# Altium schematic symbol library 9e10b744bb4c87c33691f54f9cb3eff1_25b2db50bc18869c33ddf303d90bd74c_8.schlib: 35 symbols
Pins are listed as number, name and electrical type; pins without a type are passive.

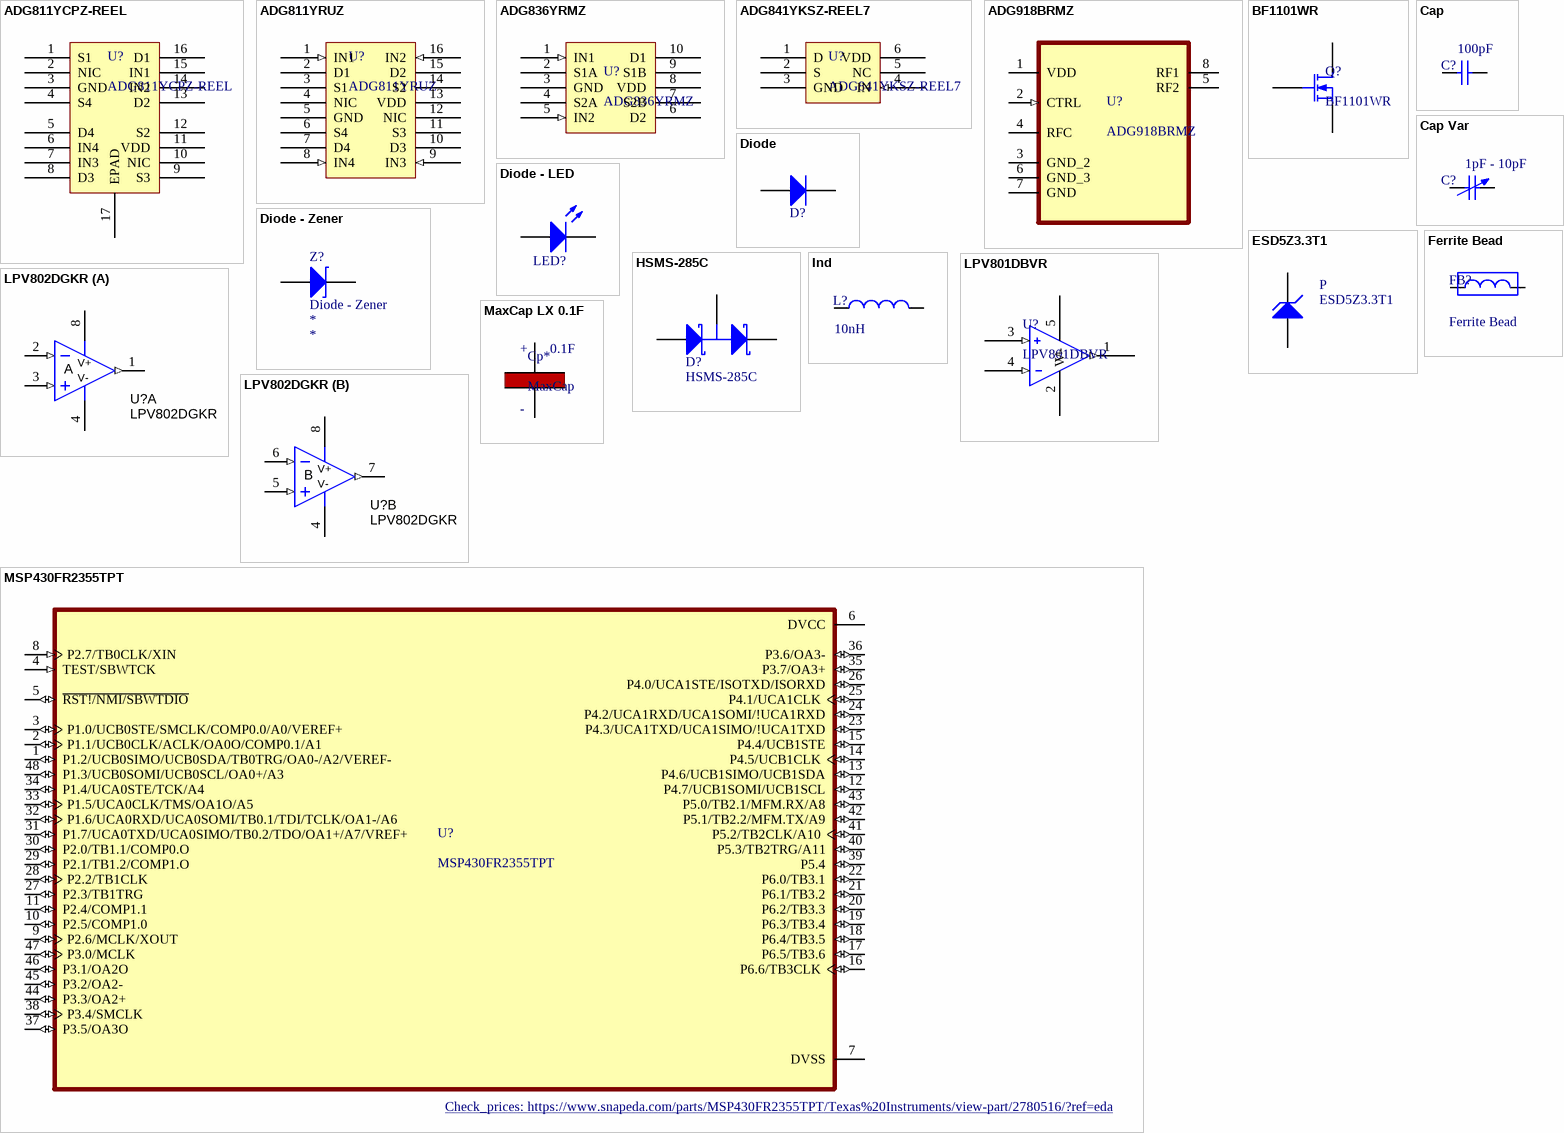
[diagram p0: symbols ADG811YCPZ-REEL to MSP430FR2355TPT]

## ADG811YCPZ-REEL
designator U?
四通道单刀单掷开关
footprint QFN50P300X300X90-17N
pins: 1 S1, 2 NIC, 3 GND, 4 S4, 5 D4, 6 IN4, 7 IN3, 8 D3, 9 S3, 10 NIC, 11 VDD, 12 S2, 13 D2, 14 IN2, 15 IN1, 16 D1, 17 EPAD

## ADG811YRUZ
designator U?
四通道单刀单掷开关
footprint SOP65P640X120-16N
pins: 1 IN1 (in), 2 D1, 3 S1, 4 NIC, 5 GND (power), 6 S4, 7 D4, 8 IN4 (in), 9 IN3 (in), 10 D3, 11 S3, 12 NIC, 13 VDD (power), 14 S2, 15 D2, 16 IN2 (in)

## ADG836YRMZ
designator U?
双通道单刀双掷开关
footprint SOP50P490X110-10N
pins: 1 IN1 (in), 2 S1A, 3 GND (power), 4 S2A, 5 IN2 (in), 6 D2, 7 S2B, 8 VDD (power), 9 S1B, 10 D1

## ADG841YKSZ-REEL7
designator U?
单通道单刀单掷开关
footprint SOT65P210X110-6N
pins: 1 D, 2 S, 3 GND (power), 4 IN (in), 5 NC, 6 VDD (power)

## ADG918BRMZ
designator U?
RF Switch Single Pole 0 MHz to 4GHz 34dB 8-Pin MSOP; MF: Analog Devices; Value: *; SnapEDA_Link: https://www.snapeda.com/parts/ADG918BRMZ/Analog%20Devices%20Inc./view-part/239205/?ref=snap; Digi-Key_Part_Number: ADG918BRMZ-ND; Package: MSOP-8 Analog Devices; Digi-Key_Purchase_URL: https://www.digikey.ru/product-detail/en/analog-devices-inc/ADG918BRMZ/ADG918BRMZ-ND/820128?utm_source=snapeda&utm_medium=aggregator&utm_campaign=symbol; MP: ADG918BRMZ
footprint SOP65P490X110-8N
pins: 1 VDD (power), 2 CTRL (in), 3 GND_2, 4 RFC, 5 RF2, 6 GND_3, 7 GND, 8 RF1

## BF1101WR
designator Q?
N-Channel Dual-Gate Mos-Fets MOSFET, SOT343R; Manufacturer Part Number: BF1101WR,115; Manufacturer: NXP Semiconductors; Digi-Key Part Number: 568-6140-1-ND; Rating: *; Value: *; Note: *
footprint SOT343R (SOT343R - Package for BF1101WR)
pins: 1 S, 2 D, 3 G

## Cap
designator C?  value 100pF  (hidden comment: Cap)
Ceramic Capacitor (Surface Mount); Manufacturer: Generic Ceramic Chip Cap (TBD); Digi-Key Part Number: *; Manufacturer Part Number: *; Note: *; Rating: *
footprint 0402 (Surface Mount; Body 1 x 0.5 mm (LxW typ))
footprint 0402-W (Surface Mount - Wide; Body 1.0 x 0.5 mm (LxW typ))
footprint 0603 (Surface Mount; Body 1.6 x 0.8 mm (LxW typ))
footprint 0603-W (Surface Mount - Wide; Body 1.6 x 0.8 mm (LxW typ))
footprint 0805 (Surface Mount; Body 2.0 x 1.25 mm (LxW typ))
footprint 0805-W (Surface Mount - Wide; Body 2.0 x 1.25 mm (LxW typ))
footprint 1206 (Surface Mount; Body 3.2 x 1.6 mm (LxW typ))
footprint 1206-W (Surface Mount - Wide; Body 3.2 x 1.6 mm (LxW typ))
footprint 1210 (Surface Mount; Body 3.2 x 2.5 mm (LxW typ))
footprint 1210-W (Chip Capacitor; Body 3.2 x 2.5 mm (LxW typ))
pins: 1, 2

## Cap Var
designator C?  value 1pF - 10pF  (hidden comment: Cap Var)
Variable or Adjustable Capacitor; Manufacturer: *; Manufacturer Part Number: *; Digi-Key Part Number: *; Rating: *
footprint Var-Cap_0603_Small (Var-Cap 0603 Compatible High-Q, DK#490-2011-1-ND)
pins: 1, 2

## Diode
designator D?  (value not drawn)
General Purpose Diode; Manufacturer: *; Manufacturer Part Number: *; Digi-Key Part Number: *; Value: *; Rating: *; Note: *
footprint Diode - SOD128 (Diode: Body 1.6 x 0.8 mm (LxW typ))
footprint DIODE - SOD123 (SOD-123; 2 Leads; Body 2.7 x 1.6 mm, (LxW))
footprint SOD-523 (SOD-523 Footprint)
pins: 1 A, 2 C

## Diode - LED
designator LED?, comment LED  (value not drawn)
Typical RED, GREEN, YELLOW, AMBER GaAs LED; Digi-Key Part Number: *; Manufacturer: *; Manufacturer Part Number: *; Note: *; Value: *; Rating: *
footprint Diode - 0603 (Diode: Body 1.6 x 0.8 mm (LxW typ))
pins: 1 A, 2 K

## Diode - Zener
designator Z?
Manufacturer Part Number: *; Manufacturer: *; Digi-Key Part Number: *; Note: *; Value: *; Rating: *
footprint SOD-523 (SOD-523 Footprint)
pins: 1 A, 2 K

## ESD5Z3.3T1
designator P
5V Overvoltage Protection Zener; Manufacturer Part Number: ESD5Z3.3T1G; Manufacturer: ON Semiconductor; Digi-Key Part Number: ESD5Z3.3T1GOSCT-ND; Value: *; Rating: *; Note: *
footprint SOD-523 (SOD-523 Footprint)
pins: 1 C, 2 A

## Ferrite Bead
designator FB?
Ferrite bead, RF choke; Manufacturer: example: Taiyo Yuden; Manufacturer Part Number: example: BK1608HS330-T; Digi-Key Part Number: example: 587-1871-1-ND; Rating: *; Note: *; Value: *
footprint 0402 (Surface Mount; Body 1 x 0.5 mm (LxW typ))
footprint 0402-W (Surface Mount - Wide; Body 1.0 x 0.5 mm (LxW typ))
footprint 0603 (Surface Mount; Body 1.6 x 0.8 mm (LxW typ))
footprint 0603-W (Surface Mount - Wide; Body 1.6 x 0.8 mm (LxW typ))
footprint 0805 (Surface Mount; Body 2.0 x 1.25 mm (LxW typ))
footprint 0805-W (Surface Mount - Wide; Body 2.0 x 1.25 mm (LxW typ))
footprint 1206 (Surface Mount; Body 3.2 x 1.6 mm (LxW typ))
footprint 1206-W (Surface Mount - Wide; Body 3.2 x 1.6 mm (LxW typ))
pins: 1, 2

## HSMS-285C
designator D?
Agilent Schottky Diode, Two in Series, Small Package SOT-323; Manufacturer: Avago Technologies US Inc.; Note: *; Digi-Key Part Number: *not stocked; Manufacturer Part Number: HSMS-285C; Rating: *; Value: *
footprint SOT-323, HSMS-285C (SOT-323/SC-70; 3 Leads; HSMS-285C)
pins: 1 A, 2 K, 3 C

## Ind
designator L?  value 10nH  (hidden comment: Ind)
Inductor (Surface Mount); Digi-Key Part Number: *; Manufacturer: *; Manufacturer Part Number: *; Rating: *; Note: *
footprint 0402 (Surface Mount; Body 1 x 0.5 mm (LxW typ))
footprint 0402-W (Surface Mount - Wide; Body 1.0 x 0.5 mm (LxW typ))
footprint 0603 (Surface Mount; Body 1.6 x 0.8 mm (LxW typ))
footprint 0603-W (Surface Mount - Wide; Body 1.6 x 0.8 mm (LxW typ))
footprint 0805 (Surface Mount; Body 2.0 x 1.25 mm (LxW typ))
footprint 0805-W (Surface Mount - Wide; Body 2.0 x 1.25 mm (LxW typ))
footprint 1206 (Surface Mount; Body 3.2 x 1.6 mm (LxW typ))
footprint 1206-W (Surface Mount - Wide; Body 3.2 x 1.6 mm (LxW typ))
footprint 1210 (Surface Mount; Body 3.2 x 2.5 mm (LxW typ))
footprint 1210-W (Chip Capacitor; Body 3.2 x 2.5 mm (LxW typ))
pins: 1, 2

## LPV801DBVR
designator U?
超低功耗运算放大器
footprint SOT95P280X145-5N
pins: 1 (out), 2 V- (power), 3 (in), 4 (in), 5 V+ (power)

## LPV802DGKR
designator U?
350 nA Rail-to-Rail I/O Nanopower Operational Amplifier Family, DGK0008A; Alternate PartNumber: LPV802DGKT; Manufacturer: Texas Instruments; CompType: IC; U/M: EA; SizeArea_mm2: 15.655; SizeAreaWB_mm2: 35.955; SizeX_mm: 5.05; SizeY_mm: 3.1; SizeZ_mm: 1.1; SymbolVersion: 2013-12-03; PartNumber: LPV802DGKR; PackageReference: DGK0008A; MountType: SMT; ComponentLink1Description: Datasheet Link; ComponentLink1URL: https://sps06.itg.ti.com/sites/KMS/crossdivteams/altium/docs/ComponentDatasheets/LPV80x_Prelim_20150508-1515_PPR.pdf; Publisher: Texas Instruments; LatestRevisionDate: 2016-06-15; Alternate Manufacturer: Texas Instruments; PackageDescription: VSSOP-8
footprint DGK0008A_N
footprint DGK0008A_M
footprint DGK0008A_L
pins on every part: 4 V- (power), 8 V+ (power)
part A pins: 1 OUT (out), 2 IN- (in), 3 IN+ (in)
part B pins: 5 IN+ (in), 6 IN- (in), 7 OUT (out)
1 alternate drawing of the same symbol
part A text: A
part B text: B

## MaxCap LX 0.1F
designator Cp*, comment MaxCap
MaxCap LX 0.1F, low leakage supper cap 5.5v
footprint Maxcap LX 0.1F (Maxcap LX Series, 0.1F, Diameter  11mm, Leads 5.1mm)
pins: 1 Positive (power), 2 GND (power)
text: +; 0.1F; -

## MSP430FR2355TPT
designator U?
24MHz 105C integrated analog microcontroller with 32KB FRAM, Op-Amps/PGAs, 12-bit DACs, 12-bit ADC 48-LQFP -40 to 105; MF: Texas Instruments; Package: LQFP-48 Texas Instruments; Price: None; Availability: Warning; Purchase-URL: https://pricing.snapeda.com/search/part/MSP430FR2355TPT/?ref=eda; MP: MSP430FR2355TPT; SnapEDA_Link: https://www.snapeda.com/parts/MSP430FR2355TPT/Texas%20Instruments/view-part/2780516/?ref=snap; Value: *; Check_prices: https://www.snapeda.com/parts/MSP430FR2355TPT/Texas%20Instruments/view-part/2780516/?ref=eda
footprint QFP50P900X900X160-48N
pins: 1 P1.2/UCB0SIMO/UCB0SDA/TB0TRG/OA0-/A2/VEREF- (io), 2 P1.1/UCB0CLK/ACLK/OA0O/COMP0.1/A1 (io), 3 P1.0/UCB0STE/SMCLK/COMP0.0/A0/VEREF+ (io), 4 TEST/SBWTCK (in), 5 ~{RST!/NMI/SBWTDIO} (io), 6 DVCC (power), 7 DVSS (power), 8 P2.7/TB0CLK/XIN (in), 9 P2.6/MCLK/XOUT (io), 10 P2.5/COMP1.0 (io), 11 P2.4/COMP1.1 (io), 12 P4.7/UCB1SOMI/UCB1SCL (io), 13 P4.6/UCB1SIMO/UCB1SDA (io), 14 P4.5/UCB1CLK (io), 15 P4.4/UCB1STE (io), 16 P6.6/TB3CLK (io), 17 P6.5/TB3.6 (io), 18 P6.4/TB3.5 (io), 19 P6.3/TB3.4 (io), 20 P6.2/TB3.3 (io), 21 P6.1/TB3.2 (io), 22 P6.0/TB3.1 (io), 23 P4.3/UCA1TXD/UCA1SIMO/!UCA1TXD (io), 24 P4.2/UCA1RXD/UCA1SOMI/!UCA1RXD (io), 25 P4.1/UCA1CLK (io), 26 P4.0/UCA1STE/ISOTXD/ISORXD (io), 27 P2.3/TB1TRG (io), 28 P2.2/TB1CLK (io), 29 P2.1/TB1.2/COMP1.O (io), 30 P2.0/TB1.1/COMP0.O (io), 31 P1.7/UCA0TXD/UCA0SIMO/TB0.2/TDO/OA1+/A7/VREF+ (io), 32 P1.6/UCA0RXD/UCA0SOMI/TB0.1/TDI/TCLK/OA1-/A6 (io), 33 P1.5/UCA0CLK/TMS/OA1O/A5 (io), 34 P1.4/UCA0STE/TCK/A4 (io), 35 P3.7/OA3+ (io), 36 P3.6/OA3- (io), 37 P3.5/OA3O (io), 38 P3.4/SMCLK (io), 39 P5.4 (io), 40 P5.3/TB2TRG/A11 (io), 41 P5.2/TB2CLK/A10 (io), 42 P5.1/TB2.2/MFM.TX/A9 (io), 43 P5.0/TB2.1/MFM.RX/A8 (io), 44 P3.3/OA2+ (io), 45 P3.2/OA2- (io), 46 P3.1/OA2O (io), 47 P3.0/MCLK (io), 48 P1.3/UCB0SOMI/UCB0SCL/OA0+/A3 (io)

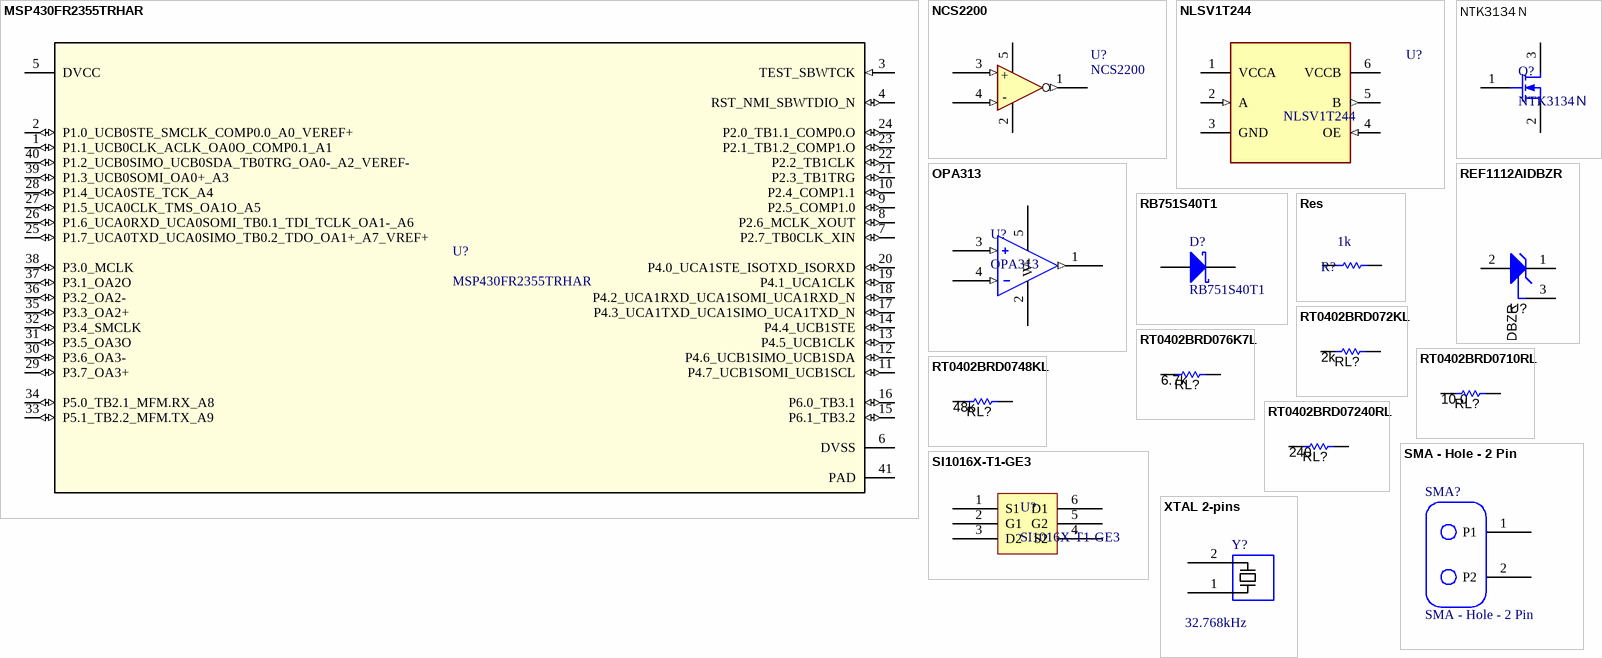
[diagram p1: symbols MSP430FR2355TRHAR to XTAL 2-pins]

## MSP430FR2355TRHAR
designator U?
No Description Available; Mfr_Name: Texas Instruments; Type: DEV; RefDes: RefDes; Copyright: Copyright (C) 2022 Ultra Librarian. All rights reserved.; Manufacturer_Part_Number: MSP430FR2355TRHAR
footprint MSP430FR2355TRHA_RHA0040E
pins: 1 P1.1_UCB0CLK_ACLK_OA0O_COMP0.1_A1 (io), 2 P1.0_UCB0STE_SMCLK_COMP0.0_A0_VEREF+ (io), 3 TEST_SBWTCK (in), 4 RST_NMI_SBWTDIO_N (io), 5 DVCC (power), 6 DVSS (power), 7 P2.7_TB0CLK_XIN (io), 8 P2.6_MCLK_XOUT (io), 9 P2.5_COMP1.0 (io), 10 P2.4_COMP1.1 (io), 11 P4.7_UCB1SOMI_UCB1SCL (io), 12 P4.6_UCB1SIMO_UCB1SDA (io), 13 P4.5_UCB1CLK (io), 14 P4.4_UCB1STE (io), 15 P6.1_TB3.2 (io), 16 P6.0_TB3.1 (io), 17 P4.3_UCA1TXD_UCA1SIMO_UCA1TXD_N (io), 18 P4.2_UCA1RXD_UCA1SOMI_UCA1RXD_N (io), 19 P4.1_UCA1CLK (io), 20 P4.0_UCA1STE_ISOTXD_ISORXD (io), 21 P2.3_TB1TRG (io), 22 P2.2_TB1CLK (io), 23 P2.1_TB1.2_COMP1.O (io), 24 P2.0_TB1.1_COMP0.O (io), 25 P1.7_UCA0TXD_UCA0SIMO_TB0.2_TDO_OA1+_A7_VREF+ (io), 26 P1.6_UCA0RXD_UCA0SOMI_TB0.1_TDI_TCLK_OA1-_A6 (io), 27 P1.5_UCA0CLK_TMS_OA1O_A5 (io), 28 P1.4_UCA0STE_TCK_A4 (io), 29 P3.7_OA3+ (io), 30 P3.6_OA3- (io), 31 P3.5_OA3O (io), 32 P3.4_SMCLK (io), 33 P5.1_TB2.2_MFM.TX_A9 (io), 34 P5.0_TB2.1_MFM.RX_A8 (io), 35 P3.3_OA2+ (io), 36 P3.2_OA2- (io), 37 P3.1_OA2O (io), 38 P3.0_MCLK (io), 39 P1.3_UCB0SOMI_OA0+_A3 (io), 40 P1.2_UCB0SIMO_UCB0SDA_TB0TRG_OA0-_A2_VEREF- (io), 41 PAD

## NCS2200
designator U?
Comparator: On Semi 10uA Comparator; Manufacturer: ON Semiconductor; Manufacturer Part Number: NCS2200SQ2T2G; Digi-Key Part Number: NCS2200SQ2T2GOSTR-ND; Rating: *; Value: *; Note: *
footprint SC70-5
pins: 1 OUT (out) "Output", 2 GND (power) "Gnd", 3 IN+ (in) "Positive Input", 4 In- (in) "Inverting Input", 5 VDD (power)
text: +; -

## NLSV1T244
designator U?
Level Shifter: 1-Bit Dual-Supply Non-Inverting Level Translator; Manufacturer Part Number: NLSV1T244MUTBG; Manufacturer: ON Semiconductor; Digi-Key Part Number: NLSV1T244MUTBG-ND; Rating: *; Value: *; Note: *
footprint UDFN6 (UDFN6 - Level Shifter -  NLSV1T244)
footprint UDFN6 - Long (UDFN6 - Level Shifter -  NLSV1T244)
pins: 1 VCCA (power) "VDDA", 2 A (in) "Low Voltage IO", 3 GND (power) "Gnd", 4 OE (in) "Enable Output Translation", 5 B (out) "High Voltage IO", 6 VCCB (power) "VDDY"

## NTK3134Ｎ
designator Q?
N沟道增强MOSFET
footprint SOT40P120X55-3N
pins: 1 G, 2 S, 3 D

## OPA313
designator U?
低功耗运算放大器
footprint SOT95P280X145-5N
pins: 1 (out), 2 V- (power), 3 (in), 4 (in), 5 V+ (power)

## RB751S40T1
designator D?
Schottky Diode; Published: 8-Jun-2000; LatestRevisionDate: 17-Jul-2002; LatestRevisionNote: Re-released for DXP Platform.; PackageReference: SMB; Publisher: Altium Limited; Code_JEDEC: DO-214-AA
footprint SOD-523 (SOD-523 Footprint)
pins: 1 C, 2 A

## REF1112AIDBZR
designator U?
1 uA Shunt Voltage Reference, 1.25 V, 10 ppm / degC, 5 mA, -40 to 85 degC, 3-pin SOT-23 (DBZ), Green (RoHS & no Sb/Br); Manufacturer: Texas Instruments; Alternate PartNumber: Equivalent; Initial Accuracy @ 25/deg C(%): 0.2; Iout/Iz(Max)(mA): 5; Min Iz for Regulation(uA): 1.2; Rating: Catalog; Temp Coeff(Max)(ppm/ degree C): 50; Temp Coeff(Typ)(ppm/ degree C): 10; VO(V): 1.25; DatasheetVersion: SBOS283C; PackageVersion: 4203227/B; PackageReference: DBZ0003A; PackageDescription: 3-Pin Plastic Small Outline, Body 2.92 x 1.3 mm, Pitch 0.95 mm; Supplier 1: Digi-Key; Supplier Part Number 1: REF1112AIDBZR-ND; Supplier 2: Newark; Supplier Part Number 2: 87H2545; Supplier 3: Mouser; Supplier Part Number 3: 595-REF1112AIDBZR; Eco-Plan: Green (RoHS & no Sb/Br); SubFamily: Shunt Voltage Reference; MountType: SMT; Code_JEDEC: TO-236; ComponentLink1Description: Manufacturer URL; ComponentLink1URL: http://www.ti.com/; ComponentLink2Description: Datasheet; ComponentLink2URL: http://www.ti.com/general/docs/lit/getliterature.tsp?genericPartNumber=REF1112&fileType=pdf; ComponentLink3Description: Package Specification; ComponentLink3URL: http://www.ti.com/litv/pdf/mpds108a; ComponentLink4Description: URL Link1; ComponentLink4URL: Samples URL:http://www.ti.com/product/ref1112; Alternate Manufacturer: Texas Instruments; PartNumber: REF1112AIDBZR
footprint DBZ0003A_N (SOT23, 3-Leads, Body 2.92x1.3 mm, Pitch 0.95 mm, IPC Medium Density)
footprint DBZ0003A_L (SOT23, 3-Leads, Body 2.92x1.3 mm, Pitch 0.95 mm, IPC High Density)
footprint DBZ0003A_M (SOT23, 3-Leads, Body 2.92x1.3 mm, Pitch 0.95 mm, IPC Low Density)
pins: 1 VO, 2 GND (power), 3 NC

## Res
designator R?  value 1k  (hidden comment: Res)
Chip Resistor (Surface Mount); Manufacturer: Generic Chip Res (TBD); Manufacturer Part Number: *; Digi-Key Part Number: *; Rating: *
footprint 0402 (Surface Mount; Body 1 x 0.5 mm (LxW typ))
footprint 0402-W (Surface Mount - Wide; Body 1.0 x 0.5 mm (LxW typ))
footprint 0603 (Surface Mount; Body 1.6 x 0.8 mm (LxW typ))
footprint 0603-W (Surface Mount - Wide; Body 1.6 x 0.8 mm (LxW typ))
footprint 0805 (Surface Mount; Body 2.0 x 1.25 mm (LxW typ))
footprint 0805-W (Surface Mount - Wide; Body 2.0 x 1.25 mm (LxW typ))
footprint 1206 (Surface Mount; Body 3.2 x 1.6 mm (LxW typ))
footprint 1206-W (Surface Mount - Wide; Body 3.2 x 1.6 mm (LxW typ))
footprint 1210 (Surface Mount; Body 3.2 x 2.5 mm (LxW typ))
footprint 1210-W (Chip Capacitor; Body 3.2 x 2.5 mm (LxW typ))
pins: 1, 2

## RT0402BRD072KL
designator RL?  value 2k  (hidden comment: RT0402BRD072KL)
RES, 2k, 0.1%, 0.1 W, 0402; Value2: 0.1W; Value1: 0.1%; ComponentLink1Description: Datasheet link; ComponentLink1URL: http://www.yageo.com/pdf/PYu-RT_1-to-0.05_RoHS_L_3.pdf
footprint 0402 (Surface Mount; Body 1 x 0.5 mm (LxW typ))
pins: 1, 2

## RT0402BRD076K7L
designator RL?  value 6.7k  (hidden comment: RT0402BRD076K7L)
RES, 6.7k, 0.1%, 0.1 W, 0402; Value2: 0.1W; Value1: 0.1%; ComponentLink1Description: Datasheet link; ComponentLink1URL: http://www.yageo.com/pdf/PYu-RT_1-to-0.05_RoHS_L_3.pdf
footprint 0402 (Surface Mount; Body 1 x 0.5 mm (LxW typ))
pins: 1, 2

## RT0402BRD0710RL
designator RL?  value 10.0  (hidden comment: RT0402BRD0710RL)
RES, 10.0, 0.1%, 0.1 W, 0402; Value2: 0.1W; Value1: 0.1%; ComponentLink1Description: Datasheet link; ComponentLink1URL: http://www.yageo.com/pdf/PYu-RT_1-to-0.05_RoHS_L_3.pdf
footprint 0402 (Surface Mount; Body 1 x 0.5 mm (LxW typ))
pins: 1, 2

## RT0402BRD0748KL
designator RL?  value 48k  (hidden comment: RT0402BRD0748KL)
RES, 48k, 0.1%, 0.1 W, 0402; Value2: 0.1W; Value1: 0.1%; ComponentLink1Description: Datasheet link; ComponentLink1URL: http://www.yageo.com/pdf/PYu-RT_1-to-0.05_RoHS_L_3.pdf
footprint 0402 (Surface Mount; Body 1 x 0.5 mm (LxW typ))
pins: 1, 2

## RT0402BRD07240RL
designator RL?  value 240  (hidden comment: RT0402BRD07240RL)
RES, 240, 0.1%, 0.1 W, 0402; Value2: 0.1W; Value1: 0.1%; ComponentLink1Description: Datasheet link; ComponentLink1URL: http://www.yageo.com/pdf/PYu-RT_1-to-0.05_RoHS_L_3.pdf
footprint 0402 (Surface Mount; Body 1 x 0.5 mm (LxW typ))
pins: 1, 2

## SI1016X-T1-GE3
designator U?
N/P沟道增强型MOS管
footprint SC-89-6 Vishay
pins: 1 S1, 2 G1, 3 D2 (power), 4 S2, 5 G2, 6 D1 (power)

## SMA - Hole - 2 Pin
designator SMA?
Two pin SMA connector wisp; Note: Not a part do not populate
footprint SMA - Hole - 2 Pin (SMA port for wisp)
pins: 1 P1 "Output", 2 P2 "Output"

## XTAL 2-pins
designator Y?, comment value 32.768kHz  (hidden comment: XTAL)
Crystal Oscillator - [3.20mm x 1.50mm]; Manufacturer: Epson Toyocom Corporation; Manufacturer Part Number: FC-135 32.7680KA-A3; Digi-Key Part Number: example: SE2413CT-ND
footprint XTAL [3.20mm x 1.50mm] (FC-135   crystal - epson eletronics)
pins: 1 (power) "Output", 2 (power) "Output"